# EAGLE library part 653106131822 (library Wire-to-Board)
WR-WTB 1.25mm SMT Male Horizontal Shrouded Header, 6 Pins=>Code : Con_WTB_1.25_PCB_SMT_653106131822 <http://katalog.we-online.de/media/thumbs2/eican/thb_Con_WTB_1.25_PCB_SMT_6531xx131822_pf2.jpg> Details see: http://katalog.we-online.de/en/em/653_1xx_131_822 Created 2014-06-06, Karrer Zheng 2014 (C) Würth Elektronik
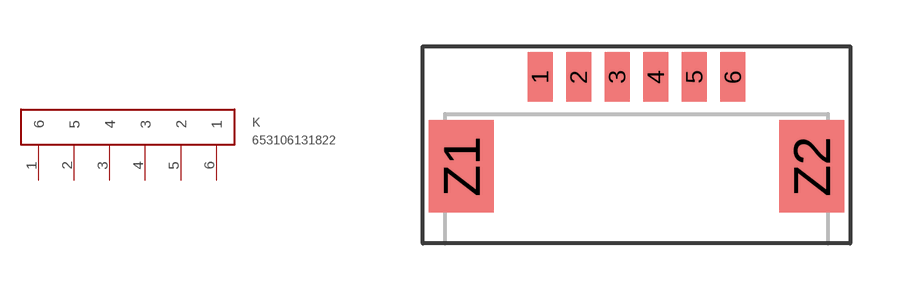
[diagram p63: symbol with the pads of 653106131822; footprint 653106131822]

Designator prefix K

## 653106131822  [653106131822]
1  6
2  5
3  4
4  3
5  2
6  1

## Footprint 653106131822 (pad centres in mm)
WR-WTB 1.25mm SMT Male Horizontal Shrouded Header, 6 Pins
smd 0.81 x 1.6: 1 -0.625,0; 2 0.625,0; 3 1.875,0; 4 3.125,0; 5 4.375,0; 6 5.625,0
smd 2.1 x 3: Z1 -3.175,-2.9; Z2 8.175,-2.9